# Altium footprint library INF-TSSLP-2-1_M.PcbLib: 1 footprints
Each footprint in its own frame and in the unit in brackets; x right, y up, seen from the top. Pads: shape width x height; smd on the part's side, far side on the other; paste and mask are expansions set on the pad; w line width, h text height; cw(c..) or ccw(c..) is an arc to the next point about the centre after c.
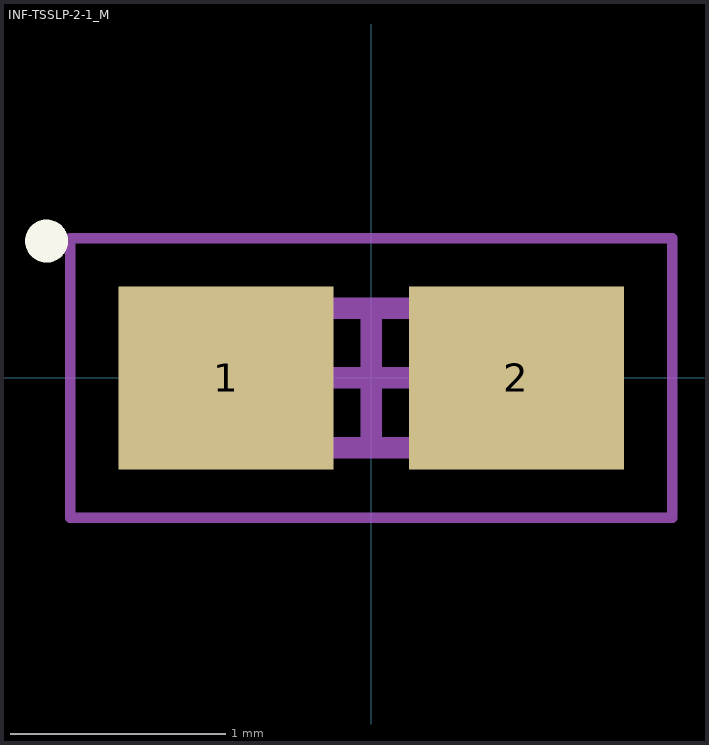
[diagram p0: the footprint, top view; thin cyan lines are the x and y axes]

## INF-TSSLP-2-1_M [mm] "Chip2PinSM, 2-Leads, Body 1x0.6 mm, Pitch 0.65 mm, IPC Low Density"
height 0.5
pads (2):
  rect 1x0.85 smd: 1(-0.675,0) 2(0.675,0)
Top Overlay:
  circle w0.1: c-1.51,0.637 r0.05
Mechanical 13:
  lines w0.1: -0.525,-0.325 0.525,-0.325 0.525,0.325 -0.525,0.325 -0.525,-0.325
Mechanical 15:
  lines w0.05: -1.4,-0.65 1.4,-0.65 1.4,0.65 -1.4,0.65 -1.4,-0.65
  lines w0.1: -0.325,0 0.325,0 ; 0,-0.325 0,0.325
3D body: height 0.5, standoff 0, extent 0.275,-0.325 0.525,0.325
3D body: height 0.5, standoff 0, extent -0.525,-0.325 -0.275,0.325
3D body: height 0.5, standoff 0, extent -0.275,-0.325 0.275,0.325